# Altium footprint library module.PcbLib: 12 footprints
Each footprint in its own frame and in the unit in brackets; x right, y up, seen from the top. Pads: shape width x height; smd on the part's side, far side on the other; paste and mask are expansions set on the pad; w line width, h text height; cw(c..) or ccw(c..) is an arc to the next point about the centre after c.
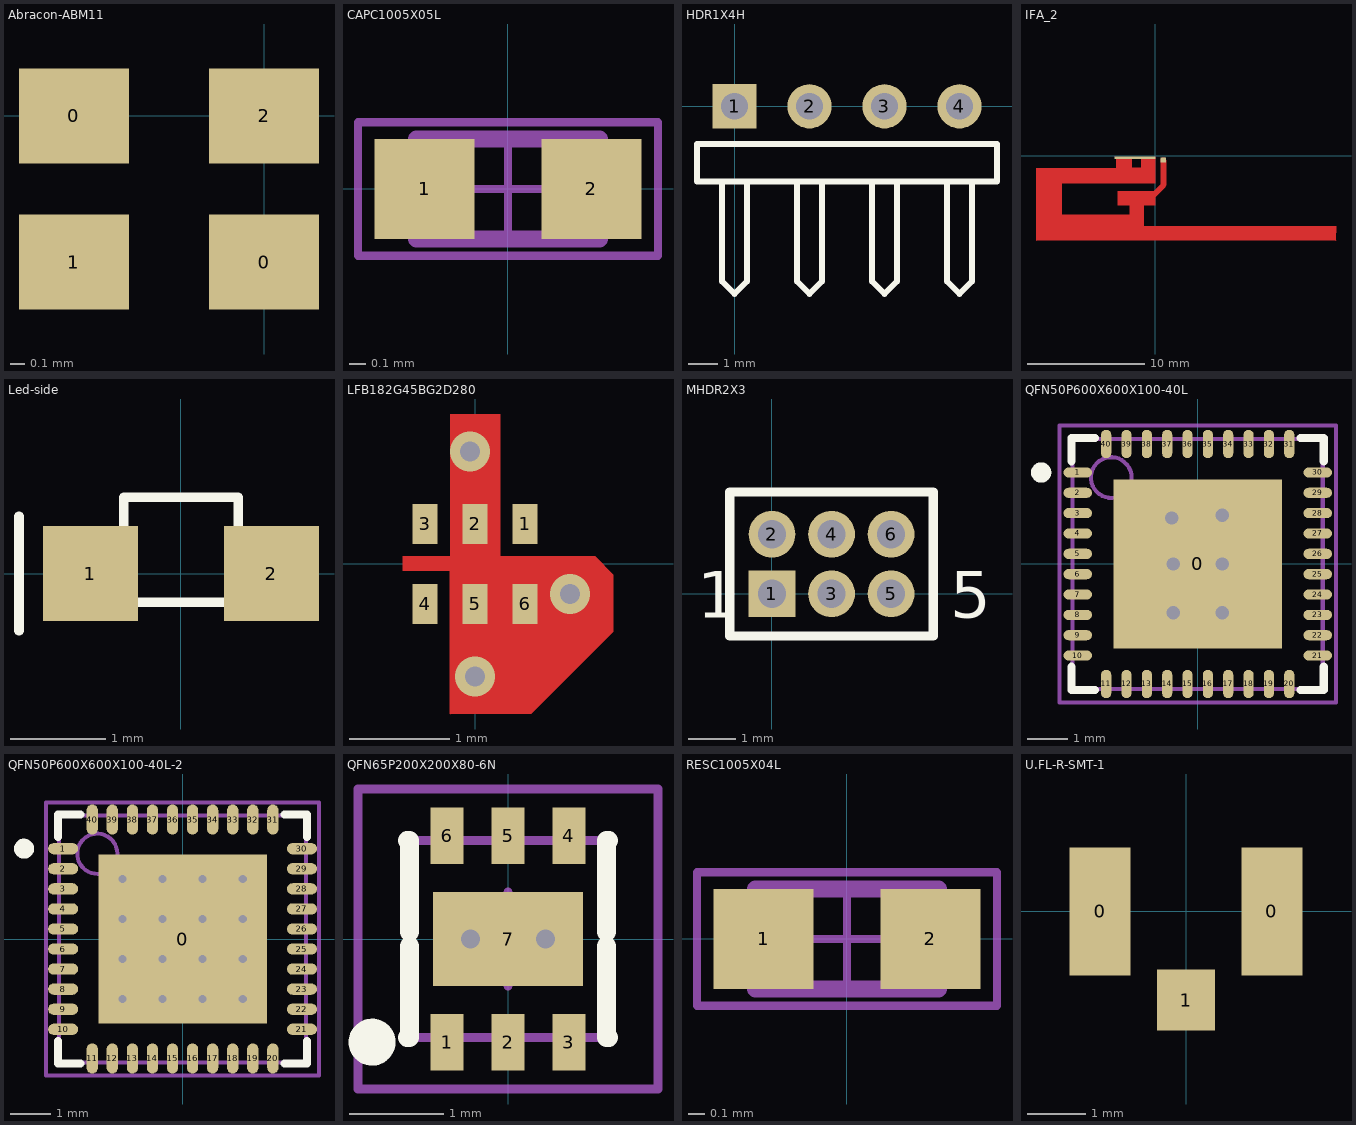
[diagram p0: the footprints below, top view; thin cyan lines are the x and y axes]

## Abracon-ABM11 [mm]
pads (4):
  rect 0.75x0.65 smd: 0(-1.3,0) 0(0,-1) 1(-1.3,-1) 2(0,0)
3D body: height 0.59, standoff 0, extent -1.65,-1.3 0.35,0.3

## CAPC1005X05L [mm] "Chip Capacitor, Body 1.1x0.5mm, IPC High Density, EIA 0402"
height 0.5
pads (2):
  rect 0.6x0.6 smd: 1(-0.5,0) 2(0.5,0)
Mechanical 13:
  lines w0.1: -0.55,-0.3 0.55,-0.3 0.55,0.3 -0.55,0.3 -0.55,-0.3
Mechanical 15:
  lines w0.05: -0.3,0 0.3,0 ; 0,-0.3 0,0.3 ; -0.9,-0.4 -0.9,0.4 0.9,0.4 0.9,-0.4 -0.9,-0.4
3D body: height 0.6, standoff 0, extent -0.55,-0.3 -0.25,0.3
3D body: height 0.6, standoff 0, extent -0.25,-0.3 0.25,0.3
3D body: height 0.6, standoff 0, extent 0.25,-0.3 0.55,0.3

## HDR1X4H [mm] "Connector; Header; 4 Position; Right Angle"
pads (4):
  rect 1.5x1.5 hole 0.9: 1(0,0)
  round 1.5 hole 0.9: 2(2.54,0) 3(5.08,0) 4(7.62,0)
Top Overlay:
  lines w0.2: -0.423,-2.54 -0.423,-5.927 0,-6.35 0.423,-5.927 0.423,-2.54 ; 2.117,-2.54 2.117,-5.927 2.54,-6.35 2.963,-5.927 2.963,-2.54 ; 4.657,-2.54 4.657,-5.927 5.08,-6.35 5.503,-5.927 5.503,-2.54 ; 7.197,-2.54 7.197,-5.927 7.62,-6.35 8.043,-5.927 8.043,-2.54 ; -1.27,-2.54 8.89,-2.54 8.89,-1.27 -1.27,-1.27 -1.27,-2.54
3D body: height 3.54, standoff -7.5, extent -1.4,-4.65 9.02,0.4

## IFA_2 [mm]
pads (2):
  rect 0.46x0.46 smd paste-1000 mask-1000: 1(0.684,-0.347)
  rect 3.48x0.2 smd paste-2539.97 mask-2539.97: 2(-1.738,-0.165)
Top Layer:
  region: -3.353,-0.23 -3.356,-1.042 -9.552,-1.067 -10.187,-1.067 -10.188,-1.067 -10.189,-1.068 -10.189,-7.215 -10.188,-7.217 -10.187,-7.217 15.416,-7.217 15.417,-7.217 15.418,-7.215 15.418,-6.002 15.417,-6 15.416,-6 -1,-6 -1,-4.207 -0.002,-4.207 0,-4.206 0,-4.205 0,-3.507 0.849,-2.664 0.85,-2.664 0.901,-2.587 0.919,-2.498 0.914,-2.498 0.92,-0.36 0.902,-0.27 0.851,-0.194 0.775,-0.143 0.685,-0.125 0.595,-0.143 0.519,-0.194 0.468,-0.27 0.45,-0.36 0.455,-0.36 0.454,-2.402 0.446,-2.41 -0.144,-3 -3.205,-3 -3.206,-3 -3.207,-3.002 -3.207,-4.205 -3.206,-4.206 -3.205,-4.207 -2.207,-4.207 -2.207,-5 -8,-5 -8,-2.34 -0.002,-2.34 0,-2.34 0,-2.338 0,-0.103 0,-0.102 -0.002,-0.101 -0.002,-0.102 -0.102,-0.102 -0.101,-0.23 -0.102,-0.229 -0.103,-0.228 -1.193,-0.228 -1.194,-0.229 -1.194,-0.23 -1.207,-1 -2,-1 -2.006,-0.23 -2.007,-0.229 -2.008,-0.228 -2.692,-0.229 -3.352,-0.228 -3.353,-0.229

## Led-side [mm]
height 0.6
pads (2):
  rect 1x1 smd: 1(-0.95,0) 2(0.95,0)
Top Overlay:
  lines w0.1: -1.7,-0.6 -1.7,0.6 ; -1,-0.3 -1,0.3 -0.6,0.3 -0.6,0.8 0.6,0.8 0.6,0.3 1,0.3 1,-0.3 -1,-0.3
3D body: height 0.55, standoff 0, extent -0.9,-0.3 0.9,0.3
3D body: height 0.55, standoff 0, extent -0.6,0.3 0.6,0.8

## LFB182G45BG2D280 [mm] "Murata Balun"
pads (6):
  rect 0.25x0.4 smd mask+0: 1(0.5,0.4) 2(0,0.4) 3(-0.5,0.4) 4(-0.5,-0.4) 5(0,-0.4) 6(0.5,-0.4)
via 0.95,-0.3 diameter 0.4 hole 0.2
via 0,-1.125 diameter 0.4 hole 0.2
via -0.049,1.125 diameter 0.4 hole 0.2
Top Layer:
  region: -0.724,0.075 1.202,0.075 1.382,-0.106 1.382,-0.677 -0.215,-0.677 -0.236,-0.664 -0.251,-0.641 -0.251,-0.15 -0.251,-0.069 -0.333,-0.067 -0.721,-0.067
  region: -0.25,1.499 -0.25,0.027 -0.236,0.013 0.242,0.013 0.25,0.021 0.25,1.499 0.251,1.5
  region: -0.251,-0.395 -0.251,-1.5 -0.25,-1.5 -0.249,-1.498 0.561,-1.498 1.382,-0.677
3D body: height 0.7, standoff 0, extent -0.851,-0.453 0.854,0.448

## MHDR2X3 [mm] "Connector; Header; 3x2 Position"
pads (6):
  rect 1x1 hole 0.6: 1(0,0)
  round 1 hole 0.6: 2(0,1.27) 3(1.27,0) 4(1.27,1.27) 5(2.54,0) 6(2.54,1.27)
Top Overlay:
  lines w0.2: -0.9,-0.9 3.44,-0.9 3.44,2.17 -0.9,2.17 -0.9,-0.9
  text "1" at -1.6,-0.508 h1
  text "5" at 3.8,-0.508 h1

## QFN50P600X600X100-40L [mm] "QFN, 40-Leads, Body 6.2x6.2mm (max), Pitch 0.50mm, IPC High Density"
height 1
pads (41):
  rect 4.149x4.149 smd: 0(0,0)
  oval 0.7x0.25 smd: 1(-2.95,2.25) 2(-2.95,1.75) 3(-2.95,1.25) 4(-2.95,0.75) 5(-2.95,0.25) 6(-2.95,-0.25) 7(-2.95,-0.75) 8(-2.95,-1.25) 9(-2.95,-1.75) 10(-2.95,-2.25) 21(2.95,-2.25) 22(2.95,-1.75) 23(2.95,-1.25) 24(2.95,-0.75) 25(2.95,-0.25) 26(2.95,0.25) 27(2.95,0.75) 28(2.95,1.25) 29(2.95,1.75) 30(2.95,2.25)
  oval 0.25x0.7 smd: 11(-2.25,-2.95) 12(-1.75,-2.95) 13(-1.25,-2.95) 14(-0.75,-2.95) 15(-0.25,-2.95) 16(0.25,-2.95) 17(0.75,-2.95) 18(1.25,-2.95) 19(1.75,-2.95) 20(2.25,-2.95) 31(2.25,2.95) 32(1.75,2.95) 33(1.25,2.95) 34(0.75,2.95) 35(0.25,2.95) 36(-0.25,2.95) 37(-0.75,2.95) 38(-1.25,2.95) 39(-1.75,2.95) 40(-2.25,2.95)
via -0.6,0 diameter 0.66 hole 0.33
via 0.6,0 diameter 0.66 hole 0.33
via 0.6,-1.2 diameter 0.66 hole 0.33
via -0.6,-1.2 diameter 0.66 hole 0.33
via -0.635,1.131 diameter 0.66 hole 0.33
via 0.6,1.2 diameter 0.66 hole 0.33
Top Overlay:
  circle w0.25: c-3.85,2.25 r0.125
  lines w0.2: -3.1,-2.525 -3.1,-3.1 -2.525,-3.1 ; -3.1,2.525 -3.1,3.1 -2.525,3.1 ; 2.525,-3.1 3.1,-3.1 3.1,-2.525 ; 2.525,3.1 3.1,3.1 3.1,2.525
Mechanical 13:
  circle w0.1: c-2.125,2.125 r0.5
  lines w0.1: -3.075,-3.075 3.075,-3.075 3.075,3.075 -3.075,3.075 -3.075,-3.075
Mechanical 15:
  lines w0.1: -0.5,0 0.5,0 ; 0,-0.5 0,0.5 ; -3.4,-3.4 3.4,-3.4 3.4,3.4 -3.4,3.4 -3.4,-3.4
3D body: height 1, standoff 0, extent -3.075,-3.075 3.075,3.075

## QFN50P600X600X100-40L-2 [mm] "QFN, 40-Leads, Body 6.2x6.2mm (max), Pitch 0.50mm, IPC High Density"
height 1
pads (41):
  rect 4.2x4.2 smd paste-1.5 mask+0: 0(0,0)
  oval 0.75x0.28 smd paste-0.025 mask+0.05: 1(-2.975,2.25) 2(-2.975,1.75) 3(-2.975,1.25) 4(-2.975,0.75) 5(-2.975,0.25) 6(-2.975,-0.25) 7(-2.975,-0.75) 8(-2.975,-1.25) 9(-2.975,-1.75) 10(-2.975,-2.25) 21(2.975,-2.25) 22(2.975,-1.75) 23(2.975,-1.25) 24(2.975,-0.75) 25(2.975,-0.25) 26(2.975,0.25) 27(2.975,0.75) 28(2.975,1.25) 29(2.975,1.75) 30(2.975,2.25)
  oval 0.28x0.75 smd paste-0.025 mask+0.05: 11(-2.25,-2.975) 12(-1.75,-2.975) 13(-1.25,-2.975) 14(-0.75,-2.975) 15(-0.25,-2.975) 16(0.25,-2.975) 17(0.75,-2.975) 18(1.25,-2.975) 19(1.75,-2.975) 20(2.25,-2.975) 31(2.25,2.975) 32(1.75,2.975) 33(1.25,2.975) 34(0.75,2.975) 35(0.25,2.975) 36(-0.25,2.975) 37(-0.75,2.975) 38(-1.25,2.975) 39(-1.75,2.975) 40(-2.25,2.975)
via -1.5,1.5 diameter 0.4 hole 0.2
via -0.5,1.5 diameter 0.4 hole 0.2
via 0.5,1.5 diameter 0.4 hole 0.2
via 1.5,1.5 diameter 0.4 hole 0.2
via -1.5,0.5 diameter 0.4 hole 0.2
via -0.5,0.5 diameter 0.4 hole 0.2
via 0.5,0.5 diameter 0.4 hole 0.2
via 1.5,0.5 diameter 0.4 hole 0.2
via -1.5,-0.5 diameter 0.4 hole 0.2
via -0.5,-0.5 diameter 0.4 hole 0.2
via 0.5,-0.5 diameter 0.4 hole 0.2
via 1.5,-0.5 diameter 0.4 hole 0.2
via -1.5,-1.5 diameter 0.4 hole 0.2
via -0.5,-1.5 diameter 0.4 hole 0.2
via 0.5,-1.5 diameter 0.4 hole 0.2
via 1.5,-1.5 diameter 0.4 hole 0.2
Top Overlay:
  circle w0.25: c-3.95,2.25 r0.125
  lines w0.2: -3.1,-2.54 -3.1,-3.1 -2.54,-3.1 ; -3.1,2.54 -3.1,3.1 -2.54,3.1 ; 2.54,-3.1 3.1,-3.1 3.1,-2.54 ; 2.54,3.1 3.1,3.1 3.1,2.54
Top Paste:
  rectangle: 0.8,0.8 2,2
  rectangle: -0.6,0.8 0.6,2
  rectangle: -2,0.8 -0.8,2
  rectangle: -2,-0.6 -0.8,0.6
  rectangle: 0.8,-0.6 2,0.6
  rectangle: 0.8,-2 2,-0.8
  rectangle: -0.6,-2 0.6,-0.8
  rectangle: -2,-2 -0.8,-0.8
Mechanical 13:
  circle w0.1: c-2.125,2.125 r0.5
  lines w0.1: -3.075,-3.075 -3.075,3.075 3.075,3.075 3.075,-3.075 -3.075,-3.075
Mechanical 15:
  lines w0.1: -0.5,0 0.5,0 ; 0,-0.5 0,0.5 ; -3.4,-3.4 -3.4,3.4 3.4,3.4 3.4,-3.4 -3.4,-3.4
3D body: height 1, standoff 0.05, extent -3.075,-3.075 3.075,3.075

## QFN65P200X200X80-6N [mm] "QFN, 6-Leads, Body 2.1x2.1mm (max), Pitch 0.65mm, IPC Medium Density"
height 0.8
pads (7):
  rect 0.35x0.6 smd paste-0.05 mask+0.07: 1(-0.65,-1.1) 2(0,-1.1) 3(0.65,-1.1) 4(0.65,1.1) 5(0,1.1) 6(-0.65,1.1)
  rect 1.6x1 smd paste-0.1: 7(0,0)
via 0.4,0 diameter 0.4 hole 0.2
via -0.4,0 diameter 0.4 hole 0.2
Top Overlay:
  circle w0.25: c-1.45,-1.1 r0.125
  lines w0.2: -1.075,-1.05 -1.05,-1.05 -1.05,-0.075 ; -1.075,1.05 -1.05,1.05 -1.05,0.075 ; 1.05,-0.075 1.05,-1.05 1.075,-1.05 ; 1.05,0.075 1.05,1.05 1.075,1.05
Mechanical 13:
  lines w0.1: -1.05,-1.05 1.05,-1.05 1.05,1.05 -1.05,1.05 -1.05,-1.05
Mechanical 15:
  lines w0.1: -0.5,0 0.5,0 ; 0,-0.5 0,0.5 ; -1.6,-1.6 1.6,-1.6 1.6,1.6 -1.6,1.6 -1.6,-1.6
3D body: height 0.8, standoff 0, extent -1.05,-1.05 1.05,1.05

## RESC1005X04L [mm] "Chip Resistor, Body 1.1x0.5mm, IPC High Density, EIA 0402"
height 0.4
pads (2):
  rect 0.6x0.6 smd: 1(-0.5,0) 2(0.5,0)
Mechanical 13:
  lines w0.1: -0.55,-0.3 0.55,-0.3 0.55,0.3 -0.55,0.3 -0.55,-0.3
Mechanical 15:
  lines w0.05: -0.3,0 0.3,0 ; 0,-0.3 0,0.3 ; -0.9,-0.4 0.9,-0.4 0.9,0.4 -0.9,0.4 -0.9,-0.4
3D body: height 0.4, standoff 0, extent -0.55,-0.3 -0.25,0.3
3D body: height 0.4, standoff 0, extent -0.25,-0.3 0.25,0.3
3D body: height 0.4, standoff 0, extent 0.25,-0.3 0.55,0.3

## U.FL-R-SMT-1 [mm]
height 1.25
pads (3):
  rect 1.05x2.2 smd paste-5: 0(-1.475,0) 0(1.475,0)
  rect 1x1.05 smd paste-5: 1(0,-1.525)
3D body: height 1.25, standoff 0, extent -1.5,-1.5 1.49,1.513